# Altium footprint library LEDs.PcbLib: 2 footprints
Each footprint in its own frame and in the unit in brackets; x right, y up, seen from the top. Pads: shape width x height; smd on the part's side, far side on the other; paste and mask are expansions set on the pad; w line width, h text height; cw(c..) or ccw(c..) is an arc to the next point about the centre after c.
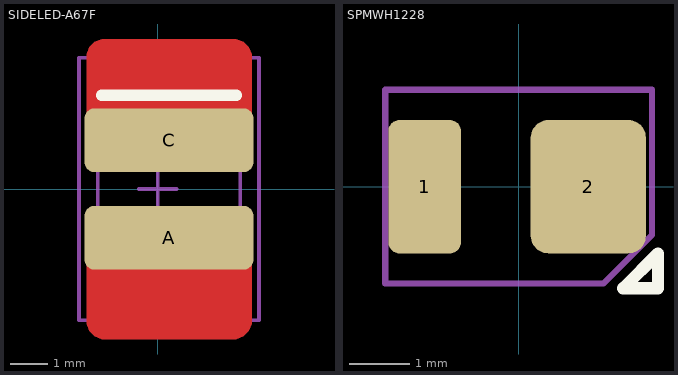
[diagram p0: the footprints below, top view; thin cyan lines are the x and y axes]

## SIDELED-A67F [mm]
height 0.8
pads (2):
  rrect30% 4.5x1.7 smd paste-0.04: A(0.3,-1.3) C(0.3,1.3)
Top Layer:
  region: 2.5,-1.7 2.5,-3.5 2.5,-3.599 2.424,-3.783 2.283,-3.924 2.099,-4 2,-4 -1.4,-4 -1.499,-4 -1.683,-3.924 -1.824,-3.783 -1.9,-3.599 -1.9,-3.5 -1.9,-1.7
  region: -1.9,1.7 -1.9,3.5 -1.9,3.599 -1.824,3.783 -1.683,3.924 -1.499,4 -1.4,4 2,4 2.099,4 2.283,3.924 2.424,3.783 2.5,3.599 2.5,3.5 2.5,1.7
Top Overlay:
  lines w0.3: -1.5,2.5 2.1,2.5
Mechanical 13:
  lines w0.1: -1.6,-2 -1.6,2 2.2,2 2.2,-2 -1.6,-2
Mechanical 15:
  lines w0.1: -0.5,0 0.5,0 ; 0,-0.5 0,0.5 ; -2.1,-3.5 -2.1,3.5 2.7,3.5 2.7,-3.5 -2.1,-3.5
3D body "LS_A67F_20091130_geometry.SLDPRT": height 4.03, standoff 0, extent -1.565,-2 2.2,2

## SPMWH1228 [mm]
pads (2):
  rrect30% 1.2x2.2 smd paste-0.05 mask+0.02: 1(-1.55,0)
  rrect30% 1.9x2.2 smd paste-0.05 mask+0.02: 2(1.15,0)
Top Overlay:
  lines w0.2: 1.725,-1.675 2.3,-1.675 2.3,-1.1 1.725,-1.675
Assembly:
  lines w0.1: -2.2,-1.6 1.4,-1.6 2.2,-0.8 2.2,1.6 -2.2,1.6 -2.2,-1.6
  text ".Designator" at -2.025,-0.3 h1.1
3D body: height 0.65, standoff 0, extent -1.75,-1.4 1.75,1.4